# Altium footprint library Module-Cam.PcbLib: 1 footprints
Each footprint in its own frame and in the unit in brackets; x right, y up, seen from the top. Pads: shape width x height; smd on the part's side, far side on the other; paste and mask are expansions set on the pad; w line width, h text height; cw(c..) or ccw(c..) is an arc to the next point about the centre after c.
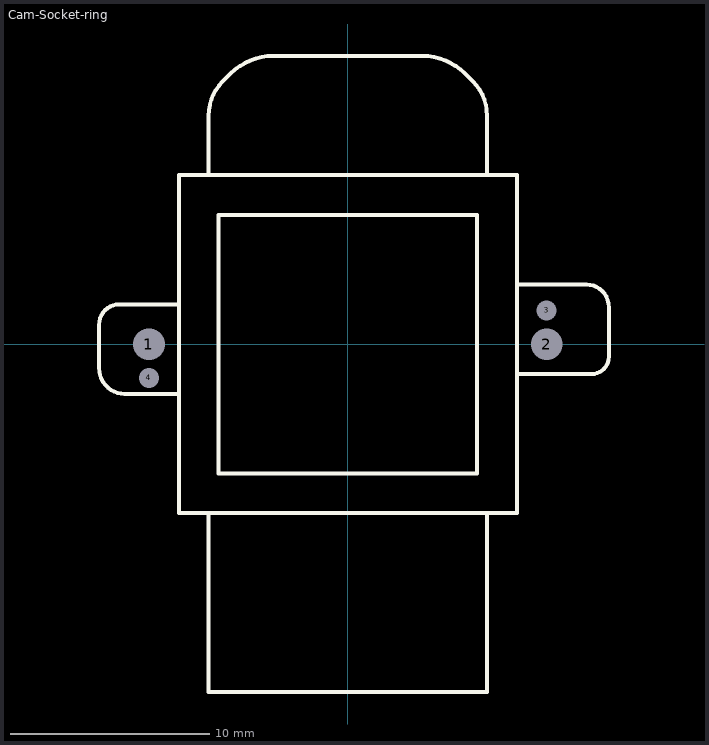
[diagram p0: the footprint, top view; thin cyan lines are the x and y axes]

## Cam-Socket-ring [mm] "20mm孔距"
pads (4):
  round 1 hole 1.6 unplated: 1(-10,0) 2(10,0)
  round 0.5 hole 1 unplated: 3(10,1.7) 4(-10,-1.7)
Top Overlay:
  lines w0.2: -8.5,-2.5 -10.5,-2.5 -11.23,-2.5 cw(c-11.23,-1.23) -12.5,-1.23 -12.5,1 cw(c-11.5,1) -11.5,2 -8.5,2 ; -7,-8.5 -7,-17.5 7,-17.5 7,-8.5 ; -7,8.5 -7,11.5 cw(c-4.586,11.5) -6.293,13.207 -5.898,13.602 cw(c-3.73,11.434) -3.73,14.5 0,14.5 3.73,14.5 cw(c3.73,11.434) 5.898,13.602 6.293,13.207 cw(c4.586,11.5) 7,11.5 7,8.5 ; 8.5,-1.5 12.269,-1.5 ccw(c12.269,-0.647) 13.122,-0.647 13.122,1.878 ccw(c12,1.878) 12,3 8.5,3 ; -8.5,-8.5 -8.5,8.5 8.5,8.5 8.5,-8.5 -8.5,-8.5 ; -6.5,-6.5 -6.5,6.5 6.5,6.5 6.5,-6.5 -6.5,-6.5
Multi-Layer:
  pour cut-out: -10.5,1.5 -10.598,1.5 -10.792,1.462 -10.974,1.386 -11.137,1.277 -11.277,1.137 -11.386,0.974 -11.462,0.792 -11.5,0.598 -11.5,0.5 -11.5,-1.5 -11.5,-1.598 -11.462,-1.792 -11.386,-1.974 -11.277,-2.137 -11.137,-2.277 -10.974,-2.386 -10.792,-2.462 -10.598,-2.5 -10.5,-2.5 -9,-2.5 -8.901,-2.5 -8.717,-2.424 -8.576,-2.283 -8.5,-2.099 -8.5,-2 -8.5,1 -8.5,1.099 -8.576,1.283 -8.717,1.424 -8.901,1.5 -9,1.5 -10,1.5 -9,1.5 -10,1.5